# EAGLE library part ESP07 (library CasaLibrary)
ESP8266 Wifi module 07 & 08
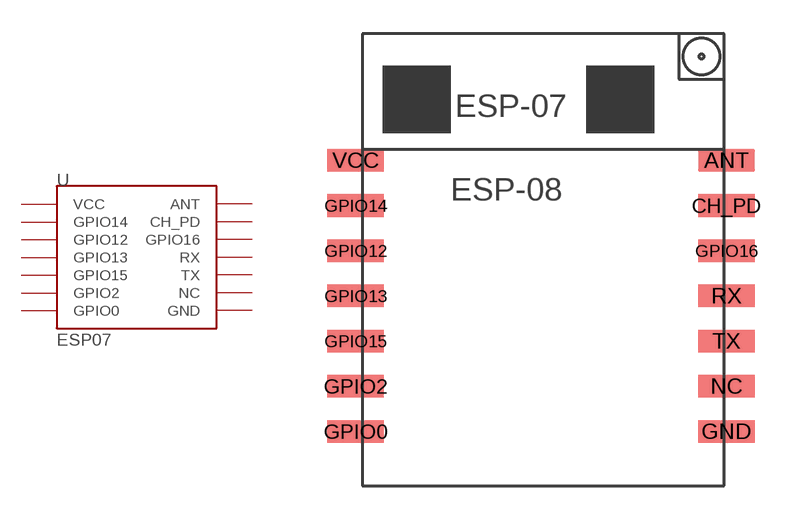
[diagram p8: symbol with the pads of ESP07; footprint ESP07]

Designator prefix -

## ESP07  [ESP07]
ANT  ANT
CH_PD  CH_PD
GND  GND
GPIO0  GPIO0
GPIO2  GPIO2
GPIO12  GPIO12
GPIO13  GPIO13
GPIO14  GPIO14
GPIO15  GPIO15
GPIO16  GPIO16
NC  NC
RX  RX
TX  TX
VCC  VCC

## Footprint ESP07 (pad centres in mm)
ESP8266 Module 07 & 08
smd 2.5 x 1: ANT 8.2,6.8; CH_PD 8.2,4.8; GND 8.2,-5.2; GPIO0 -8.2,-5.2; GPIO2 -8.2,-3.2; GPIO12 -8.2,2.8; GPIO13 -8.2,0.8; GPIO14 -8.2,4.8; GPIO15 -8.2,-1.2; GPIO16 8.2,2.8; NC 8.2,-3.2; RX 8.2,0.8; TX 8.2,-1.2; VCC -8.2,6.8